# EAGLE library part TIWI-UB1 (library Chadgra-Bluetooth)
TiWi-uB1 Bluetooth Smart (BLE) Module
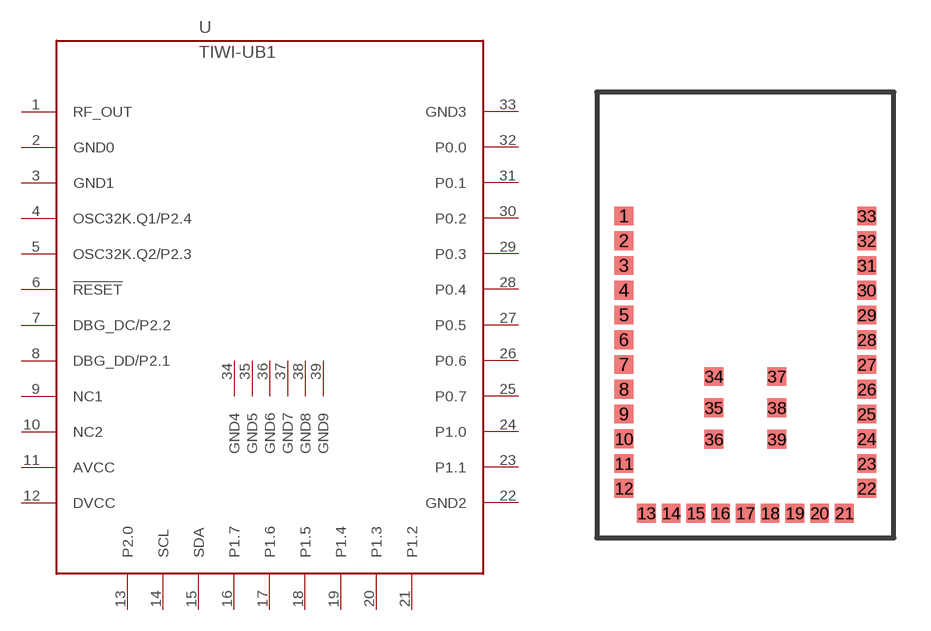
[diagram p0: symbol with the pads of TIWI-UB1; footprint TIWI-UB1]

Designator prefix -

## TIWI-UB1  [TIWI-UB1]
1  RF_OUT
2  GND0
3  GND1
4  OSC32K.Q1/P2.4
5  OSC32K.Q2/P2.3
6  !RESET
7  DBG_DC/P2.2
8  DBG_DD/P2.1
9  NC1
10  NC2
11  AVCC
12  DVCC
13  P2.0
14  SCL
15  SDA
16  P1.7
17  P1.6
18  P1.5
19  P1.4
20  P1.3
21  P1.2
22  GND2
23  P1.1
24  P1.0
25  P0.7
26  P0.6
27  P0.5
28  P0.4
29  P0.3
30  P0.2
31  P0.1
32  P0.0
33  GND3
34  GND4
35  GND5
36  GND6
37  GND7
38  GND8
39  GND9

## Footprint TIWI-UB1 (pad centres in mm)
smd 0.76 x 0.76: 1 -4.905,4; 2 -4.905,3; 3 -4.905,2; 4 -4.905,1; 5 -4.905,0; 6 -4.905,-1; 7 -4.905,-2; 8 -4.905,-3; 9 -4.905,-4; 10 -4.905,-5; 11 -4.905,-6; 12 -4.905,-7; 13 -4,-8; 14 -3,-8; 15 -2,-8; 16 -1,-8; 17 0,-8; 18 1,-8; 19 2,-8; 20 3,-8; 21 4,-8; 22 4.905,-7; 23 4.905,-6; 24 4.905,-5; 25 4.905,-4; 26 4.905,-3; 27 4.905,-2; 28 4.905,-1; 29 4.905,0; 30 4.905,1; 31 4.905,2; 32 4.905,3; 33 4.905,4; 34 -1.27,-2.48; 35 -1.27,-3.75; 36 -1.27,-5.02; 37 1.27,-2.48; 38 1.27,-3.75; 39 1.27,-5.02